# Altium footprint library PIXHAWK.PcbLib: 55 footprints (part 3 of 4)
Each footprint in its own frame and in the unit in brackets; x right, y up, seen from the top. Pads: shape width x height; smd on the part's side, far side on the other; paste and mask are expansions set on the pad; w line width, h text height; cw(c..) or ccw(c..) is an arc to the next point about the centre after c.
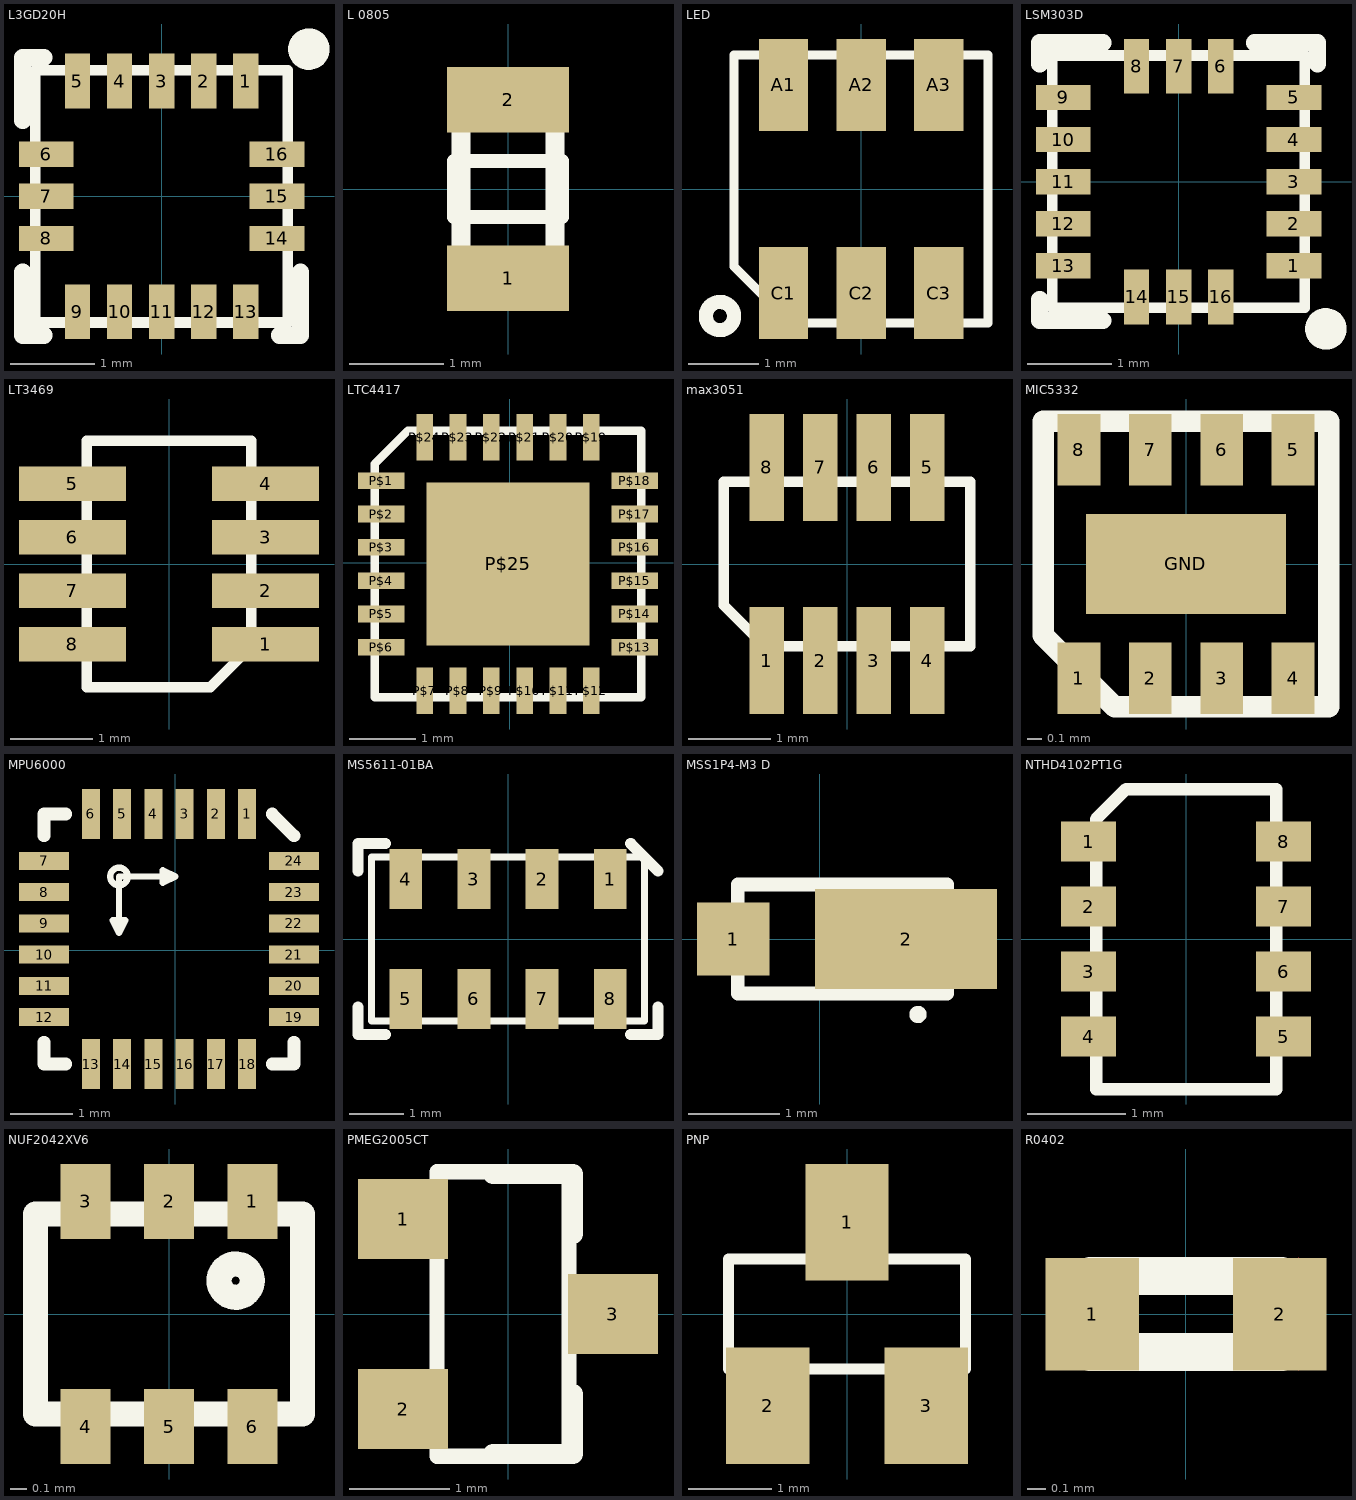
[diagram p2: the footprints below, top view; thin cyan lines are the x and y axes]

## L3GD20H [mm]
pads (16):
  rect 0.3x0.65 smd: 1(1,1.37) 2(0.5,1.37) 3(0,1.37) 4(-0.5,1.37) 5(-1,1.37) 9(-1,-1.37) 10(-0.5,-1.37) 11(0,-1.37) 12(0.5,-1.37) 13(1,-1.37)
  rect 0.65x0.3 smd: 6(-1.37,0.5) 7(-1.37,0) 8(-1.37,-0.5) 14(1.37,-0.5) 15(1.37,0) 16(1.37,0.5)
Top Overlay:
  circle w0.254: c1.75,1.75 r0.12
  lines w0.127: -1.5,-1.5 1.5,-1.5 1.5,1.5 -1.5,1.5 -1.5,-1.5
  lines w0.203: -1.65,-0.9 -1.65,-1.65 -1.4,-1.65 ; -1.65,0.9 -1.65,1.65 -1.4,1.65 ; 1.4,-1.65 1.65,-1.65 1.65,-0.9

## L 0805 [mm]
pads (2):
  rect 1.3x0.7 smd: 1(0,-0.95) 2(0,0.95)
Top Overlay:
  lines w0.152: -0.574,-0.299 0.574,-0.299 0.574,0.299 -0.574,0.299 -0.574,-0.299
  lines w0.203: -0.5,-0.6 -0.5,0.6 ; 0.5,-0.6 0.5,0.6

## LED [mm]
pads (6):
  rect 0.7x1.3 smd: A1(-1.1,1.475) A2(0,1.475) A3(1.1,1.475) C1(-1.1,-1.475) C2(0,-1.475) C3(1.1,-1.475)
Top Overlay:
  circle w0.2: c-2,-1.8 r0.2
  lines w0.127: -1.8,-1.1 -1.8,1.9 1.8,1.9 1.8,-1.9 -1,-1.9 -1.8,-1.1

## LSM303D [mm]
pads (16):
  rect 0.65x0.3 smd: 1(1.37,-1) 2(1.37,-0.5) 3(1.37,0) 4(1.37,0.5) 5(1.37,1) 9(-1.37,1) 10(-1.37,0.5) 11(-1.37,0) 12(-1.37,-0.5) 13(-1.37,-1)
  rect 0.3x0.65 smd: 6(0.5,1.37) 7(0,1.37) 8(-0.5,1.37) 14(-0.5,-1.37) 15(0,-1.37) 16(0.5,-1.37)
Top Overlay:
  circle w0.254: c1.75,-1.75 r0.12
  lines w0.127: -1.5,-1.5 -1.5,1.5 1.5,1.5 1.5,-1.5 -1.5,-1.5
  lines w0.203: -1.65,-1.4 -1.65,-1.65 -0.9,-1.65 ; -1.65,1.4 -1.65,1.65 -0.9,1.65 ; 0.9,1.65 1.65,1.65 1.65,1.4

## LT3469 [mm]
pads (8):
  rect 1.3x0.42 smd: 1(1.175,-0.975) 2(1.175,-0.325) 3(1.175,0.325) 4(1.175,0.975) 5(-1.175,0.975) 6(-1.175,0.325) 7(-1.175,-0.325) 8(-1.175,-0.975)
Top Overlay:
  lines w0.127: -1,-1.5 0.5,-1.5 1,-1 1,1.5 -1,1.5 -1,-1.5

## LTC4417 [mm]
pads (25):
  rect 0.7x0.25 smd: P$1(-1.925,1.228) P$2(-1.925,0.727) P$3(-1.925,0.228) P$4(-1.925,-0.273) P$5(-1.925,-0.772) P$6(-1.925,-1.273) P$13(1.875,-1.273) P$14(1.875,-0.772) P$15(1.875,-0.273) P$16(1.875,0.228) P$17(1.875,0.727) P$18(1.875,1.228)
  rect 0.25x0.7 smd: P$7(-1.275,-1.923) P$8(-0.775,-1.923) P$9(-0.275,-1.923) P$10(0.225,-1.923) P$11(0.725,-1.923) P$12(1.225,-1.923) P$19(1.225,1.878) P$20(0.725,1.878) P$21(0.225,1.878) P$22(-0.275,1.878) P$23(-0.775,1.878) P$24(-1.275,1.878)
  rect 2.45x2.45 smd: P$25(-0.025,-0.022)
Top Overlay:
  lines w0.127: -2.025,-2.022 1.975,-2.022 1.975,1.978 -1.526,1.978 -2.025,1.478 -2.025,-2.022

## max3051 [mm]
pads (8):
  rect 0.42x1.3 smd: 1(-0.975,-1.175) 2(-0.325,-1.175) 3(0.325,-1.175) 4(0.975,-1.175) 5(0.975,1.175) 6(0.325,1.175) 7(-0.325,1.175) 8(-0.975,1.175)
Top Overlay:
  lines w0.127: -1.5,-0.5 -1,-1 1.5,-1 1.5,1 -1.5,1 -1.5,-0.5

## MIC5332 [mm]
pads (9):
  rect 0.3x0.5 smd: 1(-0.75,-0.8) 2(-0.25,-0.8) 3(0.25,-0.8) 4(0.75,-0.8) 5(0.75,0.8) 6(0.25,0.8) 7(-0.25,0.8) 8(-0.75,0.8)
  rect 1.4x0.7 smd: GND(0,0)
Top Overlay:
  lines w0.15: -1,-0.5 -1,1 1,1 1,-1 -0.5,-1 -1,-0.5

## MPU6000 [mm]
pads (24):
  rect 0.29x0.8 smd: 1(1.148,2.181) 2(0.648,2.181) 3(0.148,2.181) 4(-0.352,2.181) 5(-0.852,2.181) 6(-1.352,2.181) 13(-1.352,-1.819) 14(-0.852,-1.819) 15(-0.352,-1.819) 16(0.148,-1.819) 17(0.648,-1.819) 18(1.148,-1.819)
  rect 0.8x0.29 smd: 7(-2.102,1.431) 8(-2.102,0.931) 9(-2.102,0.431) 10(-2.102,-0.069) 11(-2.102,-0.569) 12(-2.102,-1.069) 19(1.898,-1.069) 20(1.898,-0.569) 21(1.898,-0.069) 22(1.898,0.431) 23(1.898,0.931) 24(1.898,1.431)
Top Overlay:
  circle w0.1: c-0.902,1.181 r0.141
  lines w0.1: -0.902,0.281 -0.802,0.481 -1.002,0.481 -0.902,0.281 ; -0.902,0.281 -0.902,1.181 -0.002,1.181 ; -0.002,1.181 -0.202,1.081 -0.202,1.281 -0.002,1.181
  lines w0.203: -2.102,-1.469 -2.102,-1.819 -1.752,-1.819 ; -2.102,1.831 -2.102,2.181 -1.752,2.181 ; 1.548,-1.819 1.898,-1.819 1.898,-1.469 ; 1.548,2.181 1.898,1.831

## MS5611-01BA [mm]
pads (8):
  rect 0.6x1.1 smd: 1(1.875,1.1) 2(0.625,1.1) 3(-0.625,1.1) 4(-1.875,1.1) 5(-1.875,-1.1) 6(-0.625,-1.1) 7(0.625,-1.1) 8(1.875,-1.1)
Top Overlay:
  lines w0.127: -2.5,-1.5 -2.5,1.5 2.5,1.5 2.5,-1.5 -2.5,-1.5
  lines w0.203: -2.75,-1.25 -2.75,-1.75 -2.25,-1.75 ; -2.75,1.25 -2.75,1.75 -2.25,1.75 ; 2.25,-1.75 2.75,-1.75 2.75,-1.25 ; 2.25,1.75 2.75,1.25

## MSS1P4-M3 D [mm]
pads (2):
  rect 0.8x0.8 smd: 1(-0.95,0)
  rect 2x1.1 smd: 2(0.95,0)
Top Overlay:
  circle w0.1: c1.08,-0.83 r0.045
  lines w0.15: -0.9,-0.5 -0.9,-0.6 ; -0.9,0.5 -0.9,0.6 ; -0.9,-0.6 1.4,-0.6 ; -0.9,-0.6 -0.9,0.6 ; -0.9,-0.6 1.4,-0.6 ; -0.9,0.6 1.4,0.6 ; -0.9,0.6 1.4,0.6 ; 1.4,-0.6 1.4,0.6

## NTHD4102PT1G [mil]
pads (8):
  rect 22x16 smd: 1(-39,39) 2(-39,13) 3(-39,-13) 4(-39,-39) 5(39,-39) 6(39,-13) 7(39,13) 8(39,39)
Top Overlay:
  lines w5: -36,-60 -36,48 -24,60 36,60 36,-60 -36,-60

## NUF2042XV6 [mm]
pads (6):
  rect 0.3x0.45 smd: 1(0.5,0.675) 2(0,0.675) 3(-0.5,0.675) 4(-0.5,-0.675) 5(0,-0.675) 6(0.5,-0.675)
Top Overlay:
  circle w0.15: c0.4,0.2 r0.1
  lines w0.15: -0.8,-0.6 0.8,-0.6 0.8,0.6 -0.8,0.6 -0.8,-0.6

## PMEG2005CT [mm]
pads (3):
  rect 0.9x0.8 smd: 1(-1.05,0.95) 2(-1.05,-0.95) 3(1.05,0)
Top Overlay:
  lines w0.152: -0.71,-1.422 -0.71,1.422 0.61,1.422 0.61,-1.422 -0.71,-1.422
  lines w0.203: -0.15,-1.4 0.65,-1.4 0.65,-0.8 ; -0.15,1.4 0.65,1.4 0.65,0.8

## PNP [mm]
pads (3):
  rect 1x1.4 smd: 1(0,1.1) 2(-0.95,-1.1) 3(0.95,-1.1)
Top Overlay:
  lines w0.127: -1.422,-0.66 1.422,-0.66 1.422,0.66 -1.422,0.66 -1.422,-0.66

## R0402 [mm]
pads (2):
  rect 0.5x0.6 smd: 1(-0.5,0) 2(0.5,0)
Top Layer:
  lines w0: 0.6,-0.3 0.6,-0.13 0.6,-0.1 0.6,0 0.6,0.1 0.6,0.3
Top Overlay:
  lines w0.203: -0.508,-0.203 0.508,-0.203 ; -0.508,0.203 0.508,0.203